# Altium schematic symbol library CAP_CER_22uF_6.3V_0603.SchLib: 1 symbol
Pins are listed as number, name and electrical type; pins without a type are passive.

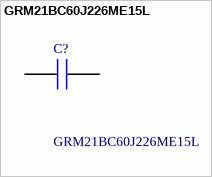
[diagram p0: symbol GRM21BC60J226ME15L]

## GRM21BC60J226ME15L
designator C?
Multilayer Ceramic Capacitors MLCC - SMD/SMT SUGGESTED SMALLER ALTERNATIVE GRM188R60J226MEA0D; Manufacturer_Name: Murata Electronics; Geometry.Height: 1.45mm; Manufacturer_Part_Number: GRM21BC60J226ME15L; Mouser Part Number: 81-GRM21BC60J226ME5L; Mouser Price/Stock: https://www.mouser.co.uk/ProductDetail/Murata-Electronics/GRM21BC60J226ME15L?qs=eeBpzGFlv%252B9REoVGpR%2FjBw%3D%3D; Arrow Part Number: *; Arrow Price/Stock: *; Datasheet Link: http://www.murata.com/~/media/webrenewal/support/library/catalog/products/capacitor/mlcc/c02e.pdf
footprint CAPC2012X145N
pins: 1, 2